# Altium schematic symbol library Jumper.SchLib: 2 symbols
Pins are listed as number, name and electrical type; pins without a type are passive.

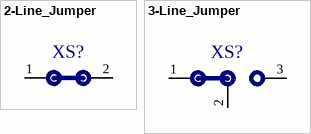
[diagram p0: symbols 2-Line_Jumper to 3-Line_Jumper]

## 2-Line_Jumper
designator XS?
Джампер 2 выводный
pins: 1, 2
5 alternate drawings of the same symbol

## 3-Line_Jumper
designator XS?
Джампер 3 выводной
pins: 1, 2, 3
11 alternate drawings of the same symbol